# Altium schematic symbol library NLSX4014.SchLib: 1 symbol
Pins are listed as number, name and electrical type; pins without a type are passive.

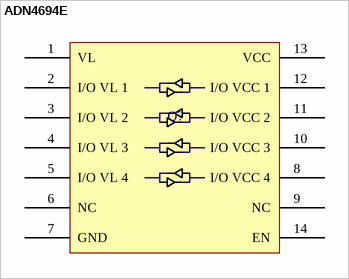
[diagram p0: symbol ADN4694E]

## ADN4694E
designator Q?  (value not drawn)
pins: 1 VL, 2 I/O VL 1, 3 I/O VL 2, 4 I/O VL 3, 5 I/O VL 4, 6 NC, 7 GND, 8 I/O VCC 4, 9 NC, 10 I/O VCC 3, 11 I/O VCC 2, 12 I/O VCC 1, 13 VCC, 14 EN